# EAGLE library part PIN_2X8 (library FaBo-PIN)
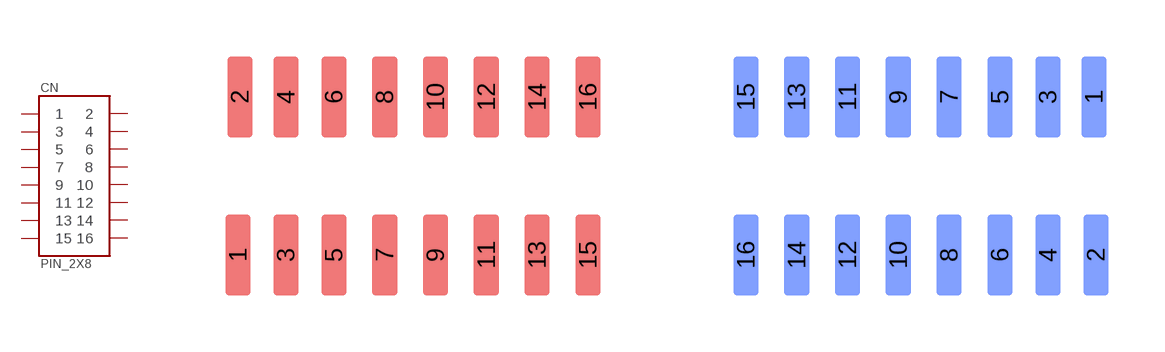
[diagram p19: symbol with the pads of PIN_2X8_1.27_SMD; footprints PIN_2X8_1.27_SMD, PIN_2X8_1.27_SMD_BOTTOM]

Designator prefix CN

## PIN_2X8  [PIN_2X8_1.27_SMD]
1  1
2  2
3  3
4  4
5  5
6  6
7  7
8  8
9  9
10  10
11  11
12  12
13  13
14  14
15  15
16  16

## PIN_2X8_BOTTOM  [PIN_2X8_1.27_SMD_BOTTOM]
Pads as for PIN_2X8_1.27_SMD

## Footprint PIN_2X8_1.27_SMD (pad centres in mm)
smd 0.635 x 2.032: 1 -4.94,-1.95; 2 -4.89,2; 3 -3.74,-1.95; 4 -3.74,2; 5 -2.54,-1.95; 6 -2.54,2; 7 -1.27,-1.95; 8 -1.27,2; 9 0,-1.95; 10 0,2; 11 1.27,-1.95; 12 1.27,2; 13 2.54,-1.95; 14 2.54,2; 15 3.81,-1.95; 16 3.81,2

## Footprint PIN_2X8_1.27_SMD_BOTTOM (pad centres in mm)
smd 0.635 x 2.032 bottom: 1 4.255,2; 2 4.305,-1.95; 3 3.105,2; 4 3.105,-1.95; 5 1.905,2; 6 1.905,-1.95; 7 0.635,2; 8 0.635,-1.95; 9 -0.635,2; 10 -0.635,-1.95; 11 -1.905,2; 12 -1.905,-1.95; 13 -3.175,2; 14 -3.175,-1.95; 15 -4.445,2; 16 -4.445,-1.95